# EAGLE library part 5050-RGB (library Strutz Electronic Industries)
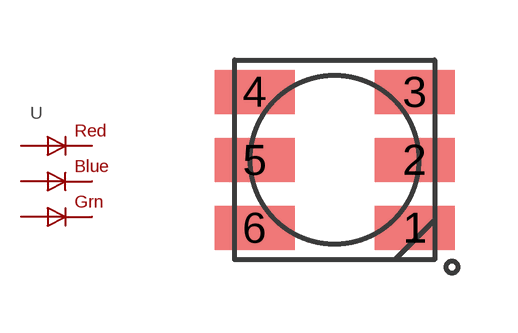
[diagram p43: symbol with the pads of 5050-RGB; footprint 5050-RGB]

Designator prefix -

## 5050-RGB  [5050-RGB]
1  BLUE_C
2  RED_C
3  GREEN_C
4  GREEN_A
5  RED_A
6  BLUE_A

## Footprint 5050-RGB (pad centres in mm)
smd 2 x 1.1: 1 2,-1.7; 2 2,0; 3 2,1.7; 4 -2,1.7; 5 -2,0; 6 -2,-1.7